# Altium footprint library WE-HCI.PcbLib: 1 footprints
Each footprint in its own frame and in the unit in brackets; x right, y up, seen from the top. Pads: shape width x height; smd on the part's side, far side on the other; paste and mask are expansions set on the pad; w line width, h text height; cw(c..) or ccw(c..) is an arc to the next point about the centre after c.
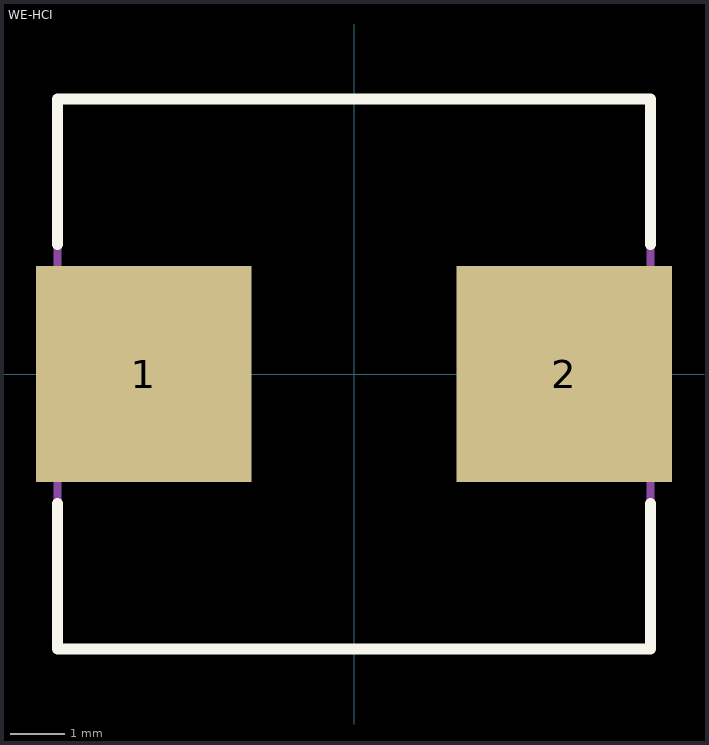
[diagram p0: the footprint, top view; thin cyan lines are the x and y axes]

## WE-HCI [mm] "High Current Inductor"
height 4.7
pads (2):
  rect 4x4 smd: 1(-3.9,0) 2(3.9,0)
Top Overlay:
  lines w0.2: -5.5,-2.4 -5.5,-5.1 5.5,-5.1 5.5,-2.4 ; -5.5,2.4 -5.5,5.1 ; 5.5,2.4 5.5,5.1 ; -5.5,5.1 5.5,5.1 ; -5.5,5.1 -5.5,5.1 ; 5.5,5.1 5.5,5.1
Mechanical 13:
  lines w0.152: -5.5,-5.1 -5.5,5.1 5.5,5.1 5.5,-5.1 -5.5,-5.1
3D body: height 5, standoff 0, extent -5.5,-5.1 5.5,5.1